# EAGLE library part 00SPEEDY_EE13/7/4_THT_H_8PIN (library Wurth Electronics Midcom Inc V1-0)
Package Style: Speedy EE13/7/4 Mounting: THT Pins: 8 pins Bobbin: 070-4849 Best pinouts for production vary per application. Please contact Wurth Electronics Midcom, Inc. for assistance with your custom design. Website: Wurth Electronics Midcom <http://www.we-online.com/midcom> Contact us Wurth Electronics Midcom, Inc. 121 Airport Dr. Watertown, SD 57201 Phone: (605) 886-4385 Fax: (605) 886-4486 E-Mail: midcom@we-online.com
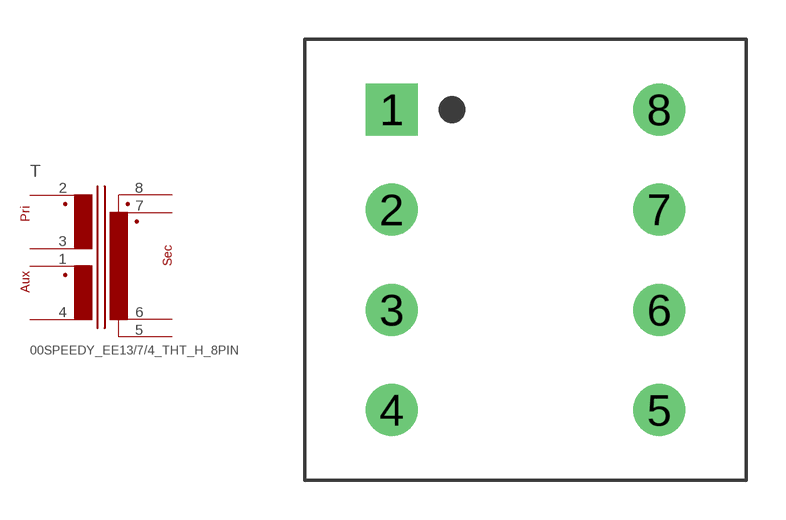
[diagram p100: symbol with the pads of 00SPEEDY_EE13/7/4_THT_H_8PIN; footprint 00SPEEDY_EE13/7/4_THT_H_8PIN]

Designator prefix T

## 00SPEEDY_EE13/7/4_THT_H_8PIN  [00SPEEDY_EE13/7/4_THT_H_8PIN]
1  3  pas
2  1  pas
3  2  pas
4  4  pas
5  6  pas
6  8  pas
7  7  pas
8  5  pas

## Footprint 00SPEEDY_EE13/7/4_THT_H_8PIN (pad centres in mm)
Package Style: Speedy EE13/7/4 Mounting: THT Pins: 8 pins Bobbin: 070-4849
drill 1.321 square: 1 -5.08,5.715
drill 1.321 round: 2 -5.08,1.905; 3 -5.08,-1.905; 4 -5.08,-5.715; 5 5.08,-5.715; 6 5.08,-1.905; 7 5.08,1.905; 8 5.08,5.715